# Altium schematic symbol library IC.SchLib: 2 symbols
Pins are listed as number, name and electrical type; pins without a type are passive.

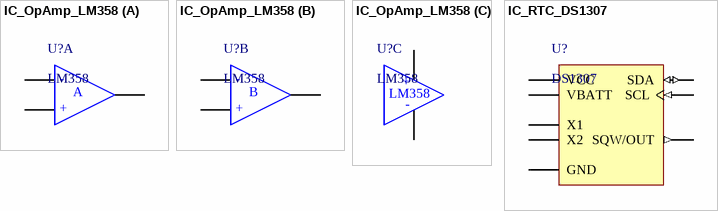
[diagram p0: symbols IC_OpAmp_LM358 to IC_RTC_DS1307]

## IC_OpAmp_LM358
designator U?, comment LM358
Rating: R-to-R; Package: PDIP-8; Type: S-Supply; Value: LM358
footprint PDIP-8
footprint SOIC-8
part A pins: 1 OUT1, 2 IN1-, 3 IN1+
part B pins: 5 IN2+, 6 IN2-, 7 OUT2
part C pins: 4 V-, 8 V+
part A text: -; A; +
part B text: -; B; +
part C text: +; -

## IC_RTC_DS1307
designator U?, comment DS1307
Rating: Rating?; Package: PDIP-8; Type: RTC; Value: DS1307
footprint PDIP-8
footprint SOIC-8
pins: 1 X1, 2 X2, 3 VBATT (power), 4 GND (power), 5 SDA (io), 6 SCL (in), 7 SQW/OUT (out), 8 VCC (power)